# Altium footprint library CAPC_0603_M1608.PcbLib: 1 footprints
Each footprint in its own frame and in the unit in brackets; x right, y up, seen from the top. Pads: shape width x height; smd on the part's side, far side on the other; paste and mask are expansions set on the pad; w line width, h text height; cw(c..) or ccw(c..) is an arc to the next point about the centre after c.
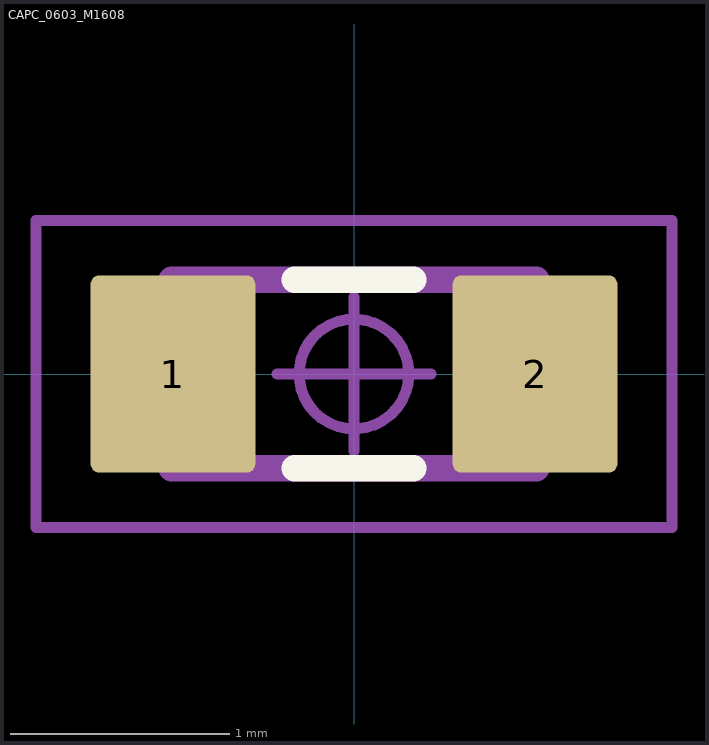
[diagram p0: the footprint, top view; thin cyan lines are the x and y axes]

## CAPC_0603_M1608 [mm] "Capacitor, Chip; 1.60 mm L X 0.80 mm W X 0.85 mm H body"
pads (2):
  rrect10% 0.75x0.9 smd: 1(-0.825,0) 2(0.825,0)
Top Overlay:
  lines w0.12: -0.27,-0.43 0.27,-0.43 ; -0.27,0.43 0.27,0.43
Mechanical 11:
  lines w0.12: -0.83,-0.43 -0.83,0.43 0.83,0.43 0.83,-0.43 -0.83,-0.43
  text ".Designator" at -1.821,-0.223 h1
Mechanical 15:
  circle w0.05: c0,0 r0.25
  lines w0.05: -0.35,0 0.35,0 ; 0,-0.35 0,0.35 ; -1.45,-0.7 -1.45,0.7 1.45,0.7 1.45,-0.7 -1.45,-0.7
3D body "CAPC_0603_M1608.STEP": height 0.85, standoff 0, extent -0.825,-0.425 0.825,0.425